# Altium footprint library Connectors_Modular.PcbLib: 2 footprints
Each footprint in its own frame and in the unit in brackets; x right, y up, seen from the top. Pads: shape width x height; smd on the part's side, far side on the other; paste and mask are expansions set on the pad; w line width, h text height; cw(c..) or ccw(c..) is an arc to the next point about the centre after c.
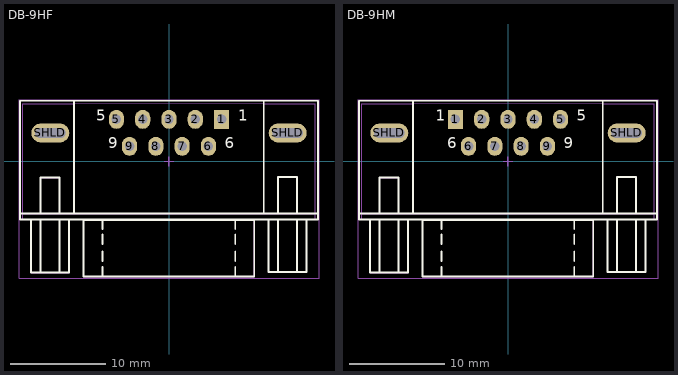
[diagram p0: the footprints below, top view; thin cyan lines are the x and y axes]

## DB-9HF [mm]
height 12.5
pads (11):
  rect 1.6x2 hole 1: 1(5.54,4.44)
  oval 1.6x2 hole 1: 2(2.77,4.44) 3(0,4.44) 4(-2.77,4.44) 5(-5.54,4.44) 6(4.155,1.6) 7(1.385,1.6) 8(-1.385,1.6) 9(-4.155,1.6)
  oval 4x2 hole 1 slot 3.2 at 0 deg: SHLD(-12.5,3) SHLD(12.5,3)
Top Overlay:
  lines w0.2: -15.7,-5.5 -15.7,6.4 -10,6.4 10,6.4 ; -14.523,-6.205 -14.523,-11.705 -10.523,-11.705 -10.523,-6.205 ; -13.523,-11.705 -13.523,-6.205 ; -13.523,-5.497 -13.523,-1.705 -11.523,-1.705 -11.523,-5.497 ; -11.523,-11.705 -11.523,-6.205 ; -10.024,6.399 -10,6.376 ; -10.023,-5.497 -10.023,6.4 ; -7.023,-12.097 -7.023,-11.094 ; -7.023,-10.497 -7.023,-9.494 ; -7.023,-8.697 -7.023,-7.694 ; -7.023,-7.097 -7.023,-6.094 ; 6.977,-12.097 6.977,-11.094 ; 6.977,-10.497 6.977,-9.494 ; 6.977,-8.697 6.977,-7.694 ; 6.977,-7.097 6.977,-6.094 ; 9.977,-5.497 9.977,6.4 ; 10,6.4 15.7,6.4 15.7,-5.5 ; 10.477,-6.122 10.477,-11.622 14.477,-11.622 14.477,-6.122 ; 11.477,-11.622 11.477,-6.122 ; 11.477,-5.497 11.477,-1.622 13.477,-1.622 13.477,-5.497 ; 13.477,-11.622 13.477,-6.122 ; 8.977,-12.122 8.977,-6.194 ; 8.977,-12.122 8.977,-6.194 ; 8.977,-12.122 -9.023,-12.122 -9.023,-6.194 8.977,-6.194 ; -15.7,-6.097 15.7,-6.097 15.7,-5.497 -15.7,-5.497 -15.7,-6.097
  text "1" at 7.315,3.85 h2
  text "6" at 5.875,0.949 h2
  text "9" at -6.425,0.949 h2
  text "5" at -7.679,3.849 h2
Top Package:
  circle w0.1: c-5.54,4.44 r0.4
  circle w0.1: c-2.77,4.44 r0.4
  circle w0.1: c5.54,4.44 r0.4
  circle w0.1: c2.77,4.44 r0.4
  circle w0.1: c0,4.44 r0.4
  circle w0.1: c1.385,1.6 r0.4
  circle w0.1: c-1.385,1.6 r0.4
  circle w0.1: c-4.155,1.6 r0.4
  circle w0.1: c4.155,1.6 r0.4
  lines w0.1: -15.4,-5.461 -15.4,6.1 -10,6.1 ; -14.5,-6.208 -14.5,-11.708 -10.5,-11.708 -10.5,-6.208 ; -13.5,-11.708 -13.5,-6.208 ; -13.5,-5.5 -13.5,-1.708 -11.5,-1.708 -11.5,-5.5 ; -11.5,-11.708 -11.5,-6.208 ; -10,-5.5 -10,6.098 10,6.123 10,-5.5 ; -7,-12.1 -7,-11.097 ; -7,-10.5 -7,-9.497 ; -7,-8.7 -7,-7.697 ; -7,-7.1 -7,-6.097 ; 7,-12.1 7,-11.097 ; 7,-10.5 7,-9.497 ; 7,-8.7 7,-7.697 ; 7,-7.1 7,-6.097 ; 10,6.1 15.4,6.1 15.4,-5.5 ; 10.5,-6.125 10.5,-11.625 14.5,-11.625 14.5,-6.125 ; 11.5,-11.625 11.5,-6.125 ; 11.5,-5.5 11.5,-1.625 13.5,-1.625 13.5,-5.5 ; 13.5,-11.625 13.5,-6.125 ; 9,-12.125 9,-6.197 ; 9,-12.125 9,-6.197 ; 9,-12.125 -9,-12.125 -9,-6.197 9,-6.197 ; 15.4,-5.5 -15.4,-5.5 -15.4,-6.1 15.4,-6.1 15.4,-5.5 ; -13.5,2.6 cw(c-13.5,3) -13.5,3.4 -11.5,3.4 cw(c-11.5,3) -11.5,2.6 -13.5,2.6 ; 11.5,2.6 cw(c11.5,3) 11.5,3.4 13.5,3.4 cw(c13.5,3) 13.5,2.6 11.5,2.6
  text "5" at -7.684,3.855 h2
  text "9" at -6.431,0.955 h2
  text "1" at 7.309,3.855 h2
  text "6" at 5.869,0.955 h2
Top Comment:
  text ".Comment" at -2.835,-3.251 h2
Top Designator:
  text ".Designator" at -4.299,-3.183 h2.5
Top Border:
  lines w0.1: -0.5,0 0.5,0 ; 0,-0.5 0,0.5 ; -15.8,-12.3 -15.8,6.5 15.8,6.5 15.8,-12.3 -15.8,-12.3 ; -0.508,0 0.508,0 -0.508,0 ; 0,-0.508 0,0.508 0,-0.508
3D body "DS-9HF.step": height 12.73, standoff -3.77, extent -15.45,-12.2 15.45,6.2

## DB-9HM [mm]
height 12.5
pads (11):
  rect 1.6x2 hole 1: 1(-5.54,4.44)
  oval 1.6x2 hole 1: 2(-2.77,4.44) 3(0,4.44) 4(2.77,4.44) 5(5.54,4.44) 6(-4.155,1.6) 7(-1.385,1.6) 8(1.385,1.6) 9(4.155,1.6)
  oval 4x2 hole 1 slot 3.2 at 0 deg: SHLD(-12.5,3) SHLD(12.5,3)
Top Overlay:
  lines w0.2: -15.7,-5.5 -15.7,6.4 -10,6.4 10,6.4 ; -14.523,-6.205 -14.523,-11.705 -10.523,-11.705 -10.523,-6.205 ; -13.523,-11.705 -13.523,-6.205 ; -13.523,-5.497 -13.523,-1.705 -11.523,-1.705 -11.523,-5.497 ; -11.523,-11.705 -11.523,-6.205 ; -10.024,6.399 -10,6.376 ; -10.023,-5.497 -10.023,6.4 ; -7.023,-12.097 -7.023,-11.094 ; -7.023,-10.497 -7.023,-9.494 ; -7.023,-8.697 -7.023,-7.694 ; -7.023,-7.097 -7.023,-6.094 ; 6.977,-12.097 6.977,-11.094 ; 6.977,-10.497 6.977,-9.494 ; 6.977,-8.697 6.977,-7.694 ; 6.977,-7.097 6.977,-6.094 ; 9.977,-5.497 9.977,6.4 ; 10,6.4 15.7,6.4 15.7,-5.5 ; 10.477,-6.122 10.477,-11.622 14.477,-11.622 14.477,-6.122 ; 11.477,-11.622 11.477,-6.122 ; 11.477,-5.497 11.477,-1.622 13.477,-1.622 13.477,-5.497 ; 13.477,-11.622 13.477,-6.122 ; 8.977,-12.122 -9.023,-12.122 -9.023,-6.194 8.977,-6.194 ; 8.977,-12.122 8.977,-6.194 ; 8.977,-12.122 8.977,-6.194 ; -15.7,-6.097 -15.7,-5.497 15.7,-5.497 15.7,-6.097 -15.7,-6.097
  text "1" at -7.585,3.85 h2
  text "6" at -6.425,0.949 h2
  text "5" at 7.221,3.849 h2
  text "9" at 5.875,0.949 h2
Top Package:
  circle w0.1: c-4.155,1.6 r0.4
  circle w0.1: c4.155,1.6 r0.4
  circle w0.1: c1.385,1.6 r0.4
  circle w0.1: c-1.385,1.6 r0.4
  circle w0.1: c0,4.44 r0.4
  circle w0.1: c-2.77,4.44 r0.4
  circle w0.1: c-5.54,4.44 r0.4
  circle w0.1: c2.77,4.44 r0.4
  circle w0.1: c5.54,4.44 r0.4
  lines w0.1: -15.4,-5.461 -15.4,6.1 -10,6.1 ; -14.5,-6.208 -14.5,-11.708 -10.5,-11.708 -10.5,-6.208 ; -13.5,-11.708 -13.5,-6.208 ; -13.5,-5.5 -13.5,-1.708 -11.5,-1.708 -11.5,-5.5 ; -11.5,-11.708 -11.5,-6.208 ; -10,-5.5 -10,6.098 10,6.123 10,-5.5 ; -7,-12.1 -7,-11.097 ; -7,-10.5 -7,-9.497 ; -7,-8.7 -7,-7.697 ; -7,-7.1 -7,-6.097 ; 7,-12.1 7,-11.097 ; 7,-10.5 7,-9.497 ; 7,-8.7 7,-7.697 ; 7,-7.1 7,-6.097 ; 10,6.1 15.4,6.1 15.4,-5.5 ; 10.5,-6.125 10.5,-11.625 14.5,-11.625 14.5,-6.125 ; 11.5,-11.625 11.5,-6.125 ; 11.5,-5.5 11.5,-1.625 13.5,-1.625 13.5,-5.5 ; 13.5,-11.625 13.5,-6.125 ; 9,-12.125 -9,-12.125 -9,-6.197 9,-6.197 ; 9,-12.125 9,-6.197 ; 9,-12.125 9,-6.197 ; 15.4,-5.5 15.4,-6.1 -15.4,-6.1 -15.4,-5.5 15.4,-5.5 ; -13.5,2.6 cw(c-13.5,3) -13.5,3.4 -11.5,3.4 cw(c-11.5,3) -11.5,2.6 -13.5,2.6 ; 11.5,2.6 cw(c11.5,3) 11.5,3.4 13.5,3.4 cw(c13.5,3) 13.5,2.6 11.5,2.6
  text "9" at 5.869,0.955 h2
  text "5" at 7.216,3.855 h2
  text "6" at -6.431,0.955 h2
  text "1" at -7.591,3.855 h2
Top Comment:
  text ".Comment" at -2.835,-3.251 h2
Top Designator:
  text ".Designator" at -4.299,-3.183 h2.5
Top Border:
  lines w0.1: -0.5,0 0.5,0 ; 0,-0.5 0,0.5 ; -15.8,-12.3 15.8,-12.3 15.8,6.5 -15.8,6.5 -15.8,-12.3 ; -0.508,0 0.508,0 -0.508,0 ; 0,-0.508 0,0.508 0,-0.508
3D body "DS-9HM.step": height 12.77, standoff -3.65, extent -15.4,-12.31 15.4,6.09